# Altium footprint library aptina-packages.PcbLib: 2 footprints
Each footprint in its own frame and in the unit in brackets; x right, y up, seen from the top. Pads: shape width x height; smd on the part's side, far side on the other; paste and mask are expansions set on the pad; w line width, h text height; cw(c..) or ccw(c..) is an arc to the next point about the centre after c.
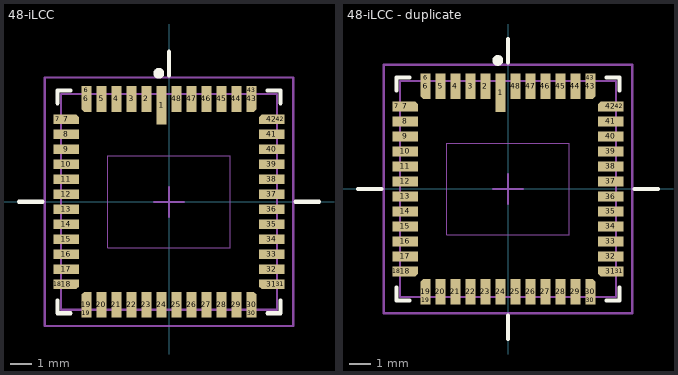
[diagram p0: the footprints below, top view; thin cyan lines are the x and y axes]

## 48-iLCC [mm] "QFN, 48-Leads, Body 10.1x10.1mm (max), Pitch 0.70mm, IPC Low Density"
height 1.375
pads (64):
  rect 0.45x1.8 smd: 1(-0.35,4.5)
  rect 0.45x1.2 smd: 2(-1.05,4.8) 3(-1.75,4.8) 4(-2.45,4.8) 5(-3.15,4.8) 20(-3.15,-4.8) 21(-2.45,-4.8) 22(-1.75,-4.8) 23(-1.05,-4.8) 24(-0.35,-4.8) 25(0.35,-4.8) 26(1.05,-4.8) 27(1.75,-4.8) 28(2.45,-4.8) 29(3.15,-4.8) 44(3.15,4.8) 45(2.45,4.8) 46(1.75,4.8) 47(1.05,4.8) 48(0.35,4.8)
  oct 0.45x1.2 smd: 6(-3.85,4.8) 19(-3.85,-4.8) 30(3.85,-4.8) 43(3.85,4.8)
  rect 0.45x0.4 smd: 6(-3.85,5.2) 19(-3.85,-5.2) 30(3.85,-5.2) 43(3.85,5.2)
  rect 0.25x0.8 smd: 6(-3.75,4.6) 19(-3.75,-4.6) 30(3.75,-4.6) 43(3.75,4.6)
  rect 0.4x0.45 smd: 7(-5.2,3.85) 18(-5.2,-3.85) 31(5.2,-3.85) 42(5.2,3.85)
  oct 1.2x0.45 smd: 7(-4.8,3.85) 18(-4.8,-3.85) 31(4.8,-3.85) 42(4.8,3.85)
  rect 0.8x0.25 smd: 7(-4.6,3.75) 18(-4.6,-3.75) 31(4.6,-3.75) 42(4.6,3.75)
  rect 1.2x0.45 smd: 8(-4.8,3.15) 9(-4.8,2.45) 10(-4.8,1.75) 11(-4.8,1.05) 12(-4.8,0.35) 13(-4.8,-0.35) 14(-4.8,-1.05) 15(-4.8,-1.75) 16(-4.8,-2.45) 17(-4.8,-3.15) 32(4.8,-3.15) 33(4.8,-2.45) 34(4.8,-1.75) 35(4.8,-1.05) 36(4.8,-0.35) 37(4.8,0.35) 38(4.8,1.05) 39(4.8,1.75) 40(4.8,2.45) 41(4.8,3.15)
Top Overlay:
  circle w0.25: c-0.475,6 r0.125
  lines w0.2: -7,0 -5.9,0 ; -5.2,-4.6 -5.2,-5.2 -4.6,-5.2 ; -5.2,4.6 -5.2,5.2 -4.6,5.2 ; 0,5.9 0,7 ; 4.6,-5.2 5.2,-5.2 5.2,-4.6 ; 4.6,5.2 5.2,5.2 5.2,4.6 ; 5.9,0 7,0
Mechanical 13:
  lines w0.05: -2.85,-2.14 -2.85,2.14 2.85,2.14 2.85,-2.14 -2.85,-2.14
  lines w0.1: -0.7,0 0.7,0 ; 0,-0.7 0,0.7 ; -5.035,-5.035 5.035,-5.035 5.035,5.035 -5.035,5.035 -5.035,-5.035
Mechanical 15:
  lines w0.1: -5.8,-5.8 5.8,-5.8 5.8,5.8 -5.8,5.8 -5.8,-5.8
  text ".Designator" at -2.292,-1.598 h0.5
3D body: height 0.7, standoff 0, extent -5.035,-5.035 5.035,5.035
3D body: height 1.3, standoff 0.7, extent -3.75,-3.5 3.75,3.5

## 48-iLCC - duplicate [mm] "QFN, 48-Leads, Body 10.1x10.1mm (max), Pitch 0.70mm, IPC Low Density"
height 1.375
pads (64):
  rect 0.45x1.8 smd: 1(-0.35,4.5)
  rect 0.45x1.2 smd: 2(-1.05,4.8) 3(-1.75,4.8) 4(-2.45,4.8) 5(-3.15,4.8) 20(-3.15,-4.8) 21(-2.45,-4.8) 22(-1.75,-4.8) 23(-1.05,-4.8) 24(-0.35,-4.8) 25(0.35,-4.8) 26(1.05,-4.8) 27(1.75,-4.8) 28(2.45,-4.8) 29(3.15,-4.8) 44(3.15,4.8) 45(2.45,4.8) 46(1.75,4.8) 47(1.05,4.8) 48(0.35,4.8)
  oct 0.45x1.2 smd: 6(-3.85,4.8) 19(-3.85,-4.8) 30(3.85,-4.8) 43(3.85,4.8)
  rect 0.45x0.4 smd: 6(-3.85,5.2) 19(-3.85,-5.2) 30(3.85,-5.2) 43(3.85,5.2)
  rect 0.25x0.8 smd: 6(-3.75,4.6) 19(-3.75,-4.6) 30(3.75,-4.6) 43(3.75,4.6)
  rect 0.4x0.45 smd: 7(-5.2,3.85) 18(-5.2,-3.85) 31(5.2,-3.85) 42(5.2,3.85)
  oct 1.2x0.45 smd: 7(-4.8,3.85) 18(-4.8,-3.85) 31(4.8,-3.85) 42(4.8,3.85)
  rect 0.8x0.25 smd: 7(-4.6,3.75) 18(-4.6,-3.75) 31(4.6,-3.75) 42(4.6,3.75)
  rect 1.2x0.45 smd: 8(-4.8,3.15) 9(-4.8,2.45) 10(-4.8,1.75) 11(-4.8,1.05) 12(-4.8,0.35) 13(-4.8,-0.35) 14(-4.8,-1.05) 15(-4.8,-1.75) 16(-4.8,-2.45) 17(-4.8,-3.15) 32(4.8,-3.15) 33(4.8,-2.45) 34(4.8,-1.75) 35(4.8,-1.05) 36(4.8,-0.35) 37(4.8,0.35) 38(4.8,1.05) 39(4.8,1.75) 40(4.8,2.45) 41(4.8,3.15)
Top Overlay:
  circle w0.25: c-0.475,6 r0.125
  lines w0.2: -7,0 -5.9,0 ; -5.2,-4.6 -5.2,-5.2 -4.6,-5.2 ; -5.2,4.6 -5.2,5.2 -4.6,5.2 ; 0,-7 0,-5.9 ; 0,5.9 0,7 ; 4.6,-5.2 5.2,-5.2 5.2,-4.6 ; 4.6,5.2 5.2,5.2 5.2,4.6 ; 5.9,0 7,0
Mechanical 13:
  lines w0.05: -2.85,-2.14 -2.85,2.14 2.85,2.14 2.85,-2.14 -2.85,-2.14
  lines w0.1: -0.7,0 0.7,0 ; 0,-0.7 0,0.7 ; -5.035,-5.035 5.035,-5.035 5.035,5.035 -5.035,5.035 -5.035,-5.035
Mechanical 15:
  lines w0.1: -5.8,-5.8 5.8,-5.8 5.8,5.8 -5.8,5.8 -5.8,-5.8
  text ".Designator" at -2.292,-1.598 h0.5
3D body: height 0.7, standoff 0, extent -5.035,-5.035 5.035,5.035
3D body: height 1.3, standoff 0.7, extent -3.75,-3.5 3.75,3.5